# Altium footprint library CL21B124KBFNNNE.PcbLib: 4 footprints
Each footprint in its own frame and in the unit in brackets; x right, y up, seen from the top. Pads: shape width x height; smd on the part's side, far side on the other; paste and mask are expansions set on the pad; w line width, h text height; cw(c..) or ccw(c..) is an arc to the next point about the centre after c.
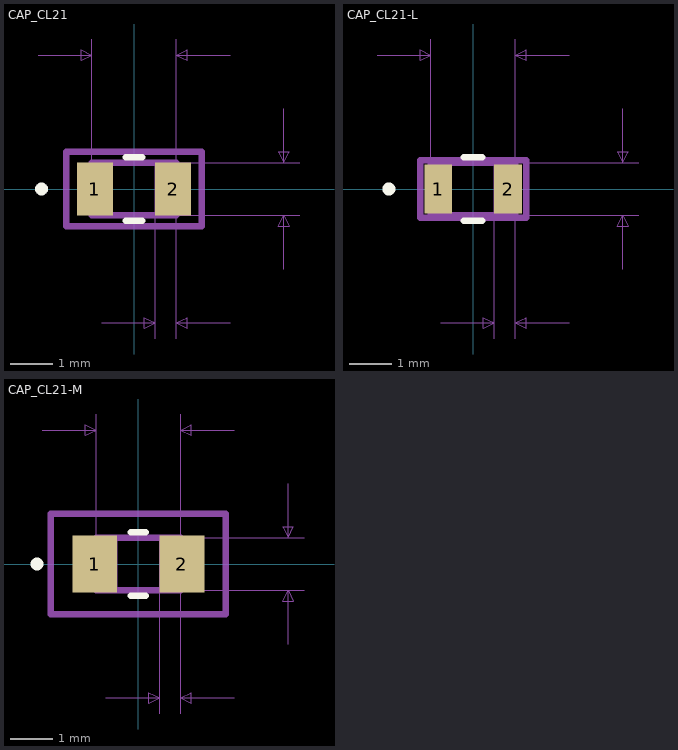
[diagram p0: the footprints below, top view; thin cyan lines are the x and y axes]

## CAP_CL21 [mm]
pads (2):
  rect 0.85x1.25 smd: 1(-0.925,0) 2(0.925,0)
Top Layer keep-out:
  region: 
Top Overlay:
  circle w0.152: c-2.188,0 r0.076
  lines w0.152: -0.192,-0.752 0.192,-0.752 ; -0.192,0.752 0.192,0.752
Mechanical 1:
  circle w0.025: c-0.798,0 r0.076
  lines w0.025: -1,-0.625 -1,0.625 ; -1,-0.625 1,-0.625 ; -1,-0.625 -0.5,-0.625 -0.5,0.625 -1,0.625 ; -1,-0.625 -1,0.625 ; -1,0.625 1,0.625 ; 1,-0.625 1,0.625 ; 1,-0.625 1,0.625 ; 1,-0.625 0.5,-0.625 0.5,0.625 1,0.625
Mechanical 16:
  circle w0.152: c-0.798,0 r0.076
  lines w0.025: -2.27,3.165 -1,3.165 ; -1,0 -1,3.546 ; -0.77,-3.165 0.5,-3.165 ; 0,-0.625 3.921,-0.625 ; 0,0.625 3.921,0.625 ; 0.5,-3.546 0.5,0 ; 1,-3.546 1,0 1,3.546 ; 2.27,-3.165 1,-3.165 ; 2.27,3.165 1,3.165 ; 3.54,-1.895 3.54,-0.625 ; 3.54,1.895 3.54,0.625 ; -1,3.165 -1.254,3.038 -1.254,3.292 -1,3.165 ; 0.5,-3.165 0.246,-3.292 0.246,-3.038 0.5,-3.165 ; 1,-3.165 1.254,-3.292 1.254,-3.038 1,-3.165 ; 1,3.165 1.254,3.038 1.254,3.292 1,3.165 ; 3.54,-0.625 3.667,-0.879 3.413,-0.879 3.54,-0.625 ; 3.54,0.625 3.667,0.879 3.413,0.879 3.54,0.625
  lines w0.152: -1.604,-0.879 1.604,-0.879 1.604,0.879 -1.604,0.879 -1.604,-0.879 ; -1,-0.625 1,-0.625 1,0.625 -1,0.625 -1,-0.625
  text "0.02in/0.5mm" at 0.75,-3.673 h0.4
  text "0.079in/2mm" at 0,3.673 h0.4
  text "0.049in/1.25mm" at 4.048,0 h0.4
  text "Alternate 2 Padstyle: b229_152h76" at 0,-11.293 h0.79
  text "Alternate 1 Padstyle: b152_229h76" at 0,-8.753 h0.79
  text "Default Padstyle: r85_125" at 0,-6.213 h0.79
Mechanical 16 keep-out:
  region: 
  region: 

## CAP_CL21-L [mm]
pads (2):
  rect 0.652x1.148 smd: 1(-0.826,0) 2(0.826,0)
Top Layer keep-out:
  region: 
Top Overlay:
  circle w0.152: c-1.991,0 r0.076
  lines w0.152: -0.219,-0.752 0.219,-0.752 ; -0.219,0.752 0.219,0.752
Mechanical 1:
  circle w0.025: c-0.699,0 r0.076
  lines w0.025: -1,-0.625 -1,0.625 ; -1,-0.625 1,-0.625 ; -1,-0.625 -0.5,-0.625 -0.5,0.625 -1,0.625 ; -1,-0.625 -1,0.625 ; -1,0.625 1,0.625 ; 1,-0.625 1,0.625 ; 1,-0.625 1,0.625 ; 1,-0.625 0.5,-0.625 0.5,0.625 1,0.625
Mechanical 16:
  circle w0.152: c-0.699,0 r0.076
  lines w0.025: -2.27,3.165 -1,3.165 ; -1,0 -1,3.546 ; -0.77,-3.165 0.5,-3.165 ; 0,-0.625 3.921,-0.625 ; 0,0.625 3.921,0.625 ; 0.5,-3.546 0.5,0 ; 1,-3.546 1,0 1,3.546 ; 2.27,-3.165 1,-3.165 ; 2.27,3.165 1,3.165 ; 3.54,-1.895 3.54,-0.625 ; 3.54,1.895 3.54,0.625 ; -1,3.165 -1.254,3.038 -1.254,3.292 -1,3.165 ; 0.5,-3.165 0.246,-3.292 0.246,-3.038 0.5,-3.165 ; 1,-3.165 1.254,-3.292 1.254,-3.038 1,-3.165 ; 1,3.165 1.254,3.038 1.254,3.292 1,3.165 ; 3.54,-0.625 3.667,-0.879 3.413,-0.879 3.54,-0.625 ; 3.54,0.625 3.667,0.879 3.413,0.879 3.54,0.625
  lines w0.152: -1.254,-0.676 1.254,-0.676 1.254,0.676 -1.254,0.676 -1.254,-0.676 ; -1,-0.625 1,-0.625 1,0.625 -1,0.625 -1,-0.625
  text "0.02in/0.5mm" at 0.75,-3.673 h0.4
  text "0.079in/2mm" at 0,3.673 h0.4
  text "0.049in/1.25mm" at 4.048,0 h0.4
  text "Alternate 2 Padstyle: OX90Y60D30P" at 0,-11.242 h0.79
  text "Alternate 1 Padstyle: OX60Y90D30P" at 0,-8.702 h0.79
  text "Default Padstyle: RX25p69Y45p21D0T" at 0,-6.162 h0.79
Mechanical 16 keep-out:
  region: 
  region: 

## CAP_CL21-M [mm]
pads (2):
  rect 1.059x1.352 smd: 1(-1.029,0) 2(1.029,0)
Top Layer keep-out:
  region: 
Top Overlay:
  circle w0.152: c-2.397,0 r0.076
  lines w0.152: -0.176,-0.752 0.176,-0.752 ; -0.176,0.752 0.176,0.752
Mechanical 1:
  circle w0.025: c-0.902,0 r0.076
  lines w0.025: -1,-0.625 -1,0.625 ; -1,-0.625 1,-0.625 ; -1,-0.625 -0.5,-0.625 -0.5,0.625 -1,0.625 ; -1,-0.625 -1,0.625 ; -1,0.625 1,0.625 ; 1,-0.625 1,0.625 ; 1,-0.625 1,0.625 ; 1,-0.625 0.5,-0.625 0.5,0.625 1,0.625
Mechanical 16:
  circle w0.152: c-0.902,0 r0.076
  lines w0.025: -2.27,3.165 -1,3.165 ; -1,0 -1,3.546 ; -0.77,-3.165 0.5,-3.165 ; 0,-0.625 3.921,-0.625 ; 0,0.625 3.921,0.625 ; 0.5,-3.546 0.5,0 ; 1,-3.546 1,0 1,3.546 ; 2.27,-3.165 1,-3.165 ; 2.27,3.165 1,3.165 ; 3.54,-1.895 3.54,-0.625 ; 3.54,1.895 3.54,0.625 ; -1,3.165 -1.254,3.038 -1.254,3.292 -1,3.165 ; 0.5,-3.165 0.246,-3.292 0.246,-3.038 0.5,-3.165 ; 1,-3.165 1.254,-3.292 1.254,-3.038 1,-3.165 ; 1,3.165 1.254,3.038 1.254,3.292 1,3.165 ; 3.54,-0.625 3.667,-0.879 3.413,-0.879 3.54,-0.625 ; 3.54,0.625 3.667,0.879 3.413,0.879 3.54,0.625
  lines w0.152: -2.067,-1.184 2.067,-1.184 2.067,1.184 -2.067,1.184 -2.067,-1.184 ; -1,-0.625 1,-0.625 1,0.625 -1,0.625 -1,-0.625
  text "0.02in/0.5mm" at 0.75,-3.673 h0.4
  text "0.079in/2mm" at 0,3.673 h0.4
  text "0.049in/1.25mm" at 4.048,0 h0.4
  text "Alternate 2 Padstyle: OX90Y60D30P" at 0,-11.344 h0.79
  text "Alternate 1 Padstyle: OX60Y90D30P" at 0,-8.804 h0.79
  text "Default Padstyle: RX41p69Y53p21D0T" at 0,-6.264 h0.79
Mechanical 16 keep-out:
  region: 
  region: 

## PCBComponent_1 [mm]